# Altium schematic symbol library Componentes_base.SchLib: 431 symbols (part 5 of 12)
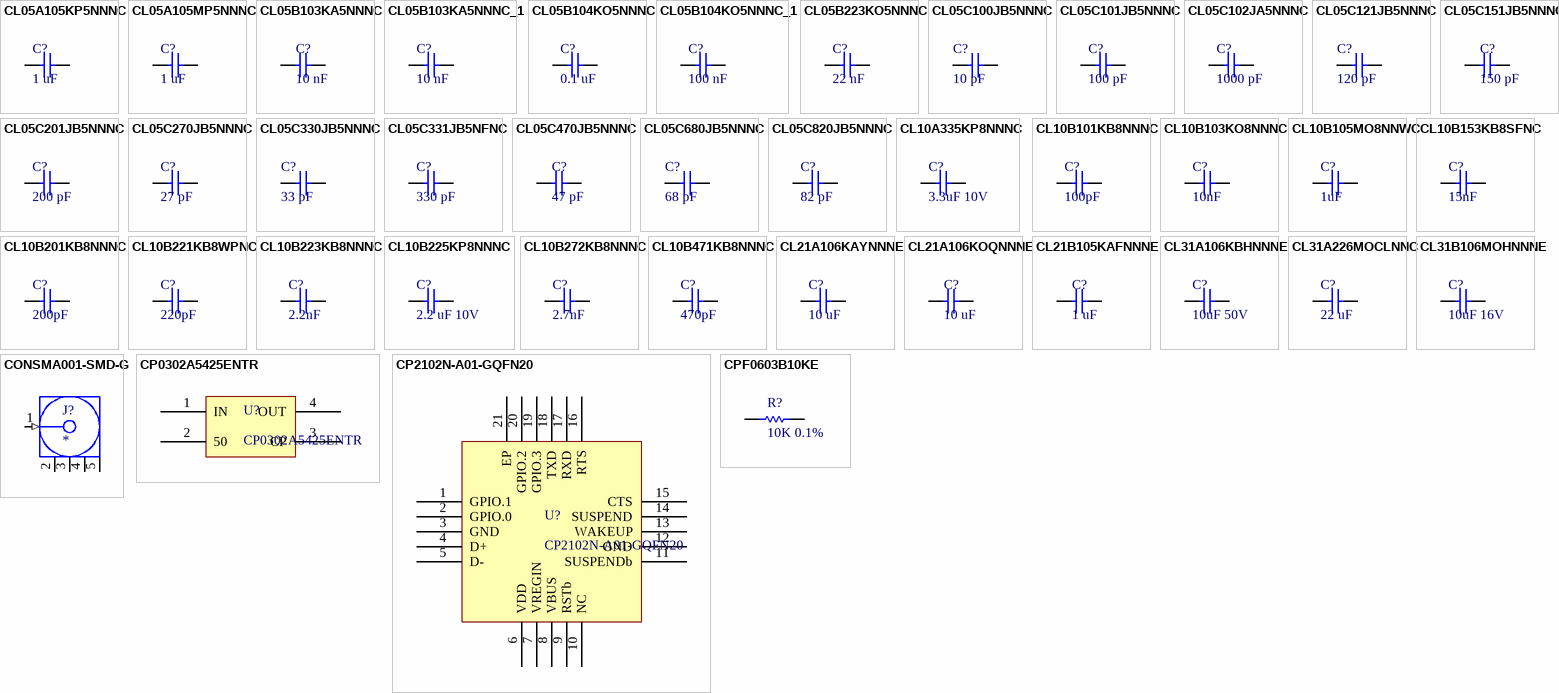
[diagram p18: symbols CL05A105KP5NNNC to CPF0603B10KE]

## CL21A106KOQNNNE
designator C?, comment 10 uF
CAP CER 10UF 16V 10% X5R 0805; Manufacturer: Samsung Electro-Mechanics America, Inc; Manufacturer Part Number: CL21B106KOQNNNE; Capacitance: 10µF; Temperature Coefficient: X7R; Supplier 1: Digi-Key; Supplier Part Number 1: 1276-2872-1-ND; RoHS: RoHS Compliant; Category: Capacitors; Stock 1: 259387; Pricing 1: 1=0.26, 10=0.217, 25=0.1496, 100=0.1088, 500=0.07204, 1000=0.0639 (EUR); Packaging: Cut Tape (CT); Tolerance: ±10%; Voltage - Rated: 16V; Mounting Type: Surface Mount, MLCC; Operating Temperature: -55°C ~ 125°C; Applications: General Purpose; Ratings: -; Package / Case: 0805 (2012 Metric); Size / Dimension: 0.079" L x 0.049" W (2.00mm x 1.25mm); Height - Seated (Max): -; Thickness (Max): 0.055" (1.40mm); Lead Spacing: -; Features: -; Lead Style: -; ComponentLink1URL: http://www.samsungsem.com/servlet/FileDownload?type=spec&file=CL21B106KOQNNNE.pdf; ComponentLink1Description: http://www.samsungsem.com/servlet/FileDownload?type=spec&file=CL21B106KOQNNNE.pdf; Supplier 2: Digi-Key; Supplier Part Number 2: 1276-1096-1-ND; Stock 2: 815363; Pricing 2: 1=0.22, 10=0.15, 25=0.1096, 100=0.0767, 500=0.05478, 1000=0.04655 (EUR); ComponentLink2URL: http://www.samsungsem.com/servlet/FileDownload?type=spec&file=CL21A106KOQNNNE.pdf; ComponentLink2Description: http://www.samsungsem.com/servlet/FileDownload?type=spec&file=CL21A106KOQNNNE.pdf
footprint CAPC2012X08L (Chip Capacitor, 2-Leads, Body 2,00x1,25mm, IPC High Density)
pins: 1, 2

## CL21B105KAFNNNE
designator C?, comment 1 uF
CAP CER 1UF 25V 10% X7R 0805; Manufacturer: Samsung Electro-Mechanics America, Inc; Manufacturer Part Number: CL21B105KAFNNNE; Capacitance: 1.0µF; Supplier 1: Digi-Key; Supplier Part Number 1: 1276-1066-1-ND; RoHS: RoHS Compliant; Category: Capacitors; Stock 1: 446779; Pricing 1: 1=0.11, 10=0.077, 25=0.054, 100=0.0349, 500=0.02446, 1000=0.01906 (EUR); Packaging: Cut Tape (CT); Tolerance: ±10%; Voltage - Rated: 25V; Temperature Coefficient: X7R; Mounting Type: Surface Mount, MLCC; Operating Temperature: -55°C ~ 125°C; Applications: General Purpose; Ratings: -; Package / Case: 0805 (2012 Metric); Size / Dimension: 0.079" L x 0.049" W (2.00mm x 1.25mm); Height - Seated (Max): -; Thickness (Max): 0.053" (1.35mm); Lead Spacing: -; Features: -; Lead Style: -; ComponentLink1URL: http://www.samsungsem.com/servlet/FileDownload?type=spec&file=CL21B105KAFNNNE.pdf; ComponentLink1Description: http://www.samsungsem.com/servlet/FileDownload?type=spec&file=CL21B105KAFNNNE.pdf
footprint CAPC2012X08L (Chip Capacitor, 2-Leads, Body 2,00x1,25mm, IPC High Density)
pins: 1, 2

## CL31A106KBHNNNE
designator C?, comment 10uF 50V
Cap Ceramic 10uF 50V X5R 10% SMD 1206 85C T/R; Manufacturer: Samsung; Manufacturer Part Number: CL31A106KBHNNNE; Capacitance: 10 µF; Supplier 1: Digi-Key; Stock 1: 20000; Pricing 1: 1=0.67, 10=0.477, 100=0.3142, 500=0.2328, 1000=0.1978 (USD); Case Size/Dimension: 1206; Dielectric: X5R; Tolerance (%): ±10 %; Rated Voltage: 50 V; ComponentLink1URL: https://datasheet.ciiva.com/25726/cl31a106kbhnnne-25726404.pdf; ComponentLink1Description: https://datasheet.ciiva.com/25726/cl31a106kbhnnne-25726404.pdf; ComponentLink2URL: https://datasheet.ciiva.com/15216/getdatasheetpartid-353196-15216238.pdf; ComponentLink2Description: https://datasheet.ciiva.com/15216/getdatasheetpartid-353196-15216238.pdf; ComponentLink3URL: https://datasheet.ciiva.com/29201/452492-da-01-en-vs-kondensator-1206-29201107.pdf; ComponentLink3Description: https://datasheet.ciiva.com/29201/452492-da-01-en-vs-kondensator-1206-29201107.pdf; ComponentLink4URL: https://datasheet.ciiva.com/16437/cl05b104kq5nnnc-16437222.pdf; ComponentLink4Description: https://datasheet.ciiva.com/16437/cl05b104kq5nnnc-16437222.pdf; ComponentLink5URL: https://datasheet.ciiva.com/20173/71-0881-20173082.pdf; ComponentLink5Description: https://datasheet.ciiva.com/20173/71-0881-20173082.pdf; Supplier Part Number 1: 1276-2876-1-ND
footprint CAPC3216X09L (Chip Capacitor, 2-Leads, Body 3,20x1,60mm, IPC High Density)
pins: 1, 2

## CL31A226MOCLNNC
designator C?, comment 22 uF
CAP CER 22UF 16V 20% X5R 1206; Manufacturer: Samsung Electro-Mechanics America, Inc; Manufacturer Part Number: CL31A226MOCLNNC; Capacitance: 22µF; Supplier 1: Digi-Key; Supplier Part Number 1: 1276-2728-1-ND; RoHS: RoHS Compliant; Category: Capacitors; Stock 1: 145906; Pricing 1: 1=0.31, 10=0.257, 25=0.1768, 100=0.1285, 500=0.0851, 1000=0.07548 (EUR); Packaging: Cut Tape (CT); Tolerance: ±20%; Voltage - Rated: 16V; Temperature Coefficient: X5R; Mounting Type: Surface Mount, MLCC; Operating Temperature: -55°C ~ 85°C; Applications: General Purpose; Ratings: -; Package / Case: 1206 (3216 Metric); Size / Dimension: 0.126" L x 0.063" W (3.20mm x 1.60mm); Height - Seated (Max): -; Thickness (Max): 0.037" (0.95mm); Lead Spacing: -; Features: -; Lead Style: -; ComponentLink1URL: http://www.samsungsem.com/servlet/FileDownload?type=spec&file=CL31A226MOCLNNC.pdf; ComponentLink1Description: http://www.samsungsem.com/servlet/FileDownload?type=spec&file=CL31A226MOCLNNC.pdf
footprint CAPC3216X09L (Chip Capacitor, 2-Leads, Body 3,20x1,60mm, IPC High Density)
pins: 1, 2

## CL31B106MOHNNNE
designator C?, comment 10uF 16V
CAP CER 10UF 16V X7R 1206; Manufacturer: Samsung Electro-Mechanics America, Inc.; Manufacturer Part Number: CL31B106MOHNNNE; Capacitance: 10µF; Tolerance: ±20%; Supplier 1: Digi-Key; RoHS: RoHS Compliant; Category: Capacitors; Stock 1: 8361; Pricing 1: 1=0.13, 10=0.093, 25=0.0676, 50=0.0528, 100=0.0438, 250=0.0362, 500=0.03068, 1000=0.02539 (EUR); Packaging: Digi-Reel®; Part Status: Active; Voltage - Rated: 16V; Temperature Coefficient: X7R; Operating Temperature: -55°C ~ 125°C; Features: -; Ratings: -; Applications: General Purpose; Mounting Type: Surface Mount, MLCC; Package / Case: 1206 (3216 Metric); Size / Dimension: 0.126" L x 0.063" W (3.20mm x 1.60mm); Height - Seated (Max): -; Thickness (Max): 0.071" (1.80mm); Lead Spacing: -; Lead Style: -; ComponentLink1URL: http://www.samsungsem.com/kr/support/product-search/mlcc/__icsFiles/afieldfile/2016/08/18/S_CL31B106MOHNNNE.pdf; ComponentLink1Description: http://www.samsungsem.com/kr/support/product-search/mlcc/__icsFiles/afieldfile/2016/08/18/S_CL31B106MOHNNNE.pdf; Supplier Part Number 1: 1276-6641-6-ND
footprint 1206 CAP (Chip Capacitor, 2-Leads, Body 3,20x1,60mm, IPC Medium Density)
pins: 1, 2

## CONSMA001-SMD-G
designator J?
RF Connectors / Coaxial Connectors SMA Female Surface Mount Gold; Manufacturer: Linx Technologies; Manufacturer Part Number: CONSMA001-SMD-G; Gender: Jack; Impedance: 50 Ohms; Product Status: New at Mouser; Connector Type: Jack, Female Socket; Contact Termination: Solder; Body Material: Brass; Center Contact Material: Beryllium Copper; Dielectric Material: Polytetrafluoroethylene (PTFE); Supplier 1: Mouser; Supplier Part Number 1: 712-CONSMA001-SMD-G; RoHS: RoHS Compliant; Category: RF Connectors / Coaxial Connectors; Stock 1: 3012; Pricing 1: 1=2.47, 25=2.24, 100=2.14, 500=1.95, 2000=1.90 (EUR); Contact Plating: Gold; Orientation: Vertical; Product: Connectors; Series: SMA; Termination Style: Solder; Brand: Linx Technologies; Contact Material: Beryllium Copper; RF Series: SMA; Body Finish: Gold; Standard Pack Qty: 100; RoHS - Mouser: Y; Minimum Order Quantity: 1; Reeling: False; ComponentLink1URL: http://www.mouser.com/ds/2/238/consma001-smd-21851.pdf; ComponentLink1Description: http://www.mouser.com/ds/2/238/consma001-smd-21851.pdf; Supplier 2: Digi-Key; Supplier Part Number 2: CONSMA001-SMD-G-ND; Stock 2: 17786; Pricing 2: 1=2.77, 25=2.5068, 100=2.3907 (EUR); Packaging: Bulk; Connector Style: SMA; Shield Termination: Solder; Mounting Type: Surface Mount; Cable Group: -; Fastening Type: Threaded; Frequency - Max: -; Features: -; Housing Color: Gold; Ingress Protection: -; Center Contact Plating: Gold; Voltage Rating: -; Operating Temperature: -65°C ~ 165°C; ComponentLink2URL: https://www.linxtechnologies.com/resources/diagrams/consma001-smd-g.pdf; ComponentLink2Description: https://www.linxtechnologies.com/resources/diagrams/consma001-smd-g.pdf
footprint SMA_SMD_LYNX (SMA RF CONNECTOR. SMD VERTICAL)
pins: 1 Signal (in) "Signal Pin", 2 GND (power), 3 GND (power), 4 GND (power), 5 GND (power)

## CP0302A5425ENTR
designator U?
WIFI COUPLER 0302; Manufacturer: AVX Corporation; Coupler Type: Standard; Frequency: 2.4GHz ~ 2.5GHz, 4.9GHz ~ 5.95GHz; Coupling Factor: 20dB; Insertion Loss: 0.4dB; Return Loss: 30dB; Supplier 1: Digi-Key; Manufacturer Part Number: CP0302A5425ENTR; RoHS: RoHS Compliant; Category: RF/IF and RFID; Stock 1: 8267; Pricing 1: 1=0.48, 10=0.428, 25=0.3872, 100=0.3387, 250=0.2972, 500=0.26264, 1000=0.20733 (EUR); Packaging: Cut Tape (CT); Part Status: Active; Applications: General Purpose; Power - Max: -; Isolation: -; Package / Case: 0302 (0806 Metric), 4 Lead; Supplier Device Package: -; ComponentLink1URL: http://datasheets.avx.com/cp0302.pdf; ComponentLink1Description: http://datasheets.avx.com/cp0302.pdf; Supplier Part Number 1: 478-9329-1-ND
footprint DFN60P65X25-4N (DFN, 4-Leads, Body 0,50x0,65mm, Pitch 0,60mm, IPC Medium Density)
pins: 1 IN, 2 50 , 3 CP, 4 OUT

## CP2102N-A01-GQFN20
designator U?
SILICON LABS         CP2102N-A01-GQFN20             Interface Bridges, USB to UART, 3 V, 3.6 V, QFN, 20 Pins, -40 C                          New; Supply Voltage Min: 3V; Supply Voltage Max: 3.6V; No. of Pins: 20Pins; SVHC: To Be Advised; Supplier 1: Digi-Key; Manufacturer: Silicon Labs; Manufacturer Part Number: CP2102N-A01-GQFN20; Stock 1: 13910; Pricing 1: 1=1.33, 25=1.2808, 100=1.2317, 1000=1.1526 (USD); Bridge Type: USB to UART; Interface Case Style: QFN; Operating Temperature Min: -40°C; Operating Temperature Max: 85°C; Packaging: Each; Product Range: -; Automotive Qualification Standard: -; MSL: MSL 2 - 1 year; Supplier Part Number 1: 336-3692-ND
footprint PQFN127P600-8N
pins: 1 GPIO.1, 2 GPIO.0 , 3 GND, 4 D+, 5 D-, 6 VDD, 7 VREGIN, 8 VBUS, 9 RSTb, 10 NC, 11 SUSPENDb, 12 GND, 13 WAKEUP, 14 SUSPEND, 15 CTS, 16 RTS, 17 RXD, 18 TXD, 19 GPIO.3, 20 GPIO.2, 21 EP

## CPF0603B10KE
designator R?, comment 10K 0.1%
RES SMD 10K OHM 0.1% 1/16W 0603; Manufacturer: TE Connectivity AMP Connectors; Manufacturer Part Number: CPF0603B10KE; Power (Watts): 0.063W, 1/16W; Temperature Coefficient: ±25ppm/°C; Power Rating: 63 mW; Resistance: 10 kOhms; Voltage Rating: 100 V; Brand: TE Connectivity / Neohm; Supplier 1: Digi-Key; RoHS: RoHS Compliant; Category: Resistors; Stock 1: 4359; Pricing 1: 1=0.17, 50=0.1686, 100=0.1615, 250=0.12044, 500=0.07938 (EUR); Packaging: Digi-Reel®; Resistance (Ohms): 10k; Tolerance: ±0.1%; Composition: Thin Film; Features: -; Operating Temperature: -55°C ~ 155°C; Package / Case: 0603 (1608 Metric); Supplier Device Package: 0603; Size / Dimension: 0.061" L x 0.031" W (1.55mm x 0.80mm); Height: 0.022" (0.55mm); Number of Terminations: 2; ComponentLink1URL: http://www.te.com/commerce/DocumentDelivery/DDEController?Action=srchrtrv&DocNm=1773200&DocType=DS&DocLang=English; ComponentLink1Description: http://www.te.com/commerce/DocumentDelivery/DDEController?Action=srchrtrv&DocNm=1773200&DocType=DS&DocLang=English; Supplier 2: Mouser; Stock 2: 3319; Pricing 2: 1=0.182, 50=0.181, 100=0.174, 250=0.130, 500=0.085, 5000=0.085 (EUR); Length: 1.55 mm; Operating Temperature Range: - 55 C to + 155 C; Package/Case: 0603 (1608 metric); Product: Precision Resistors Thin Film SMD; Series: CPF; Termination Style: SMD/SMT; Type: Thin Film Precision Resistors; Width: 0.8 mm; Case Code - in: 0603; Case Code - mm: 1608; Standard Pack Qty: 5000; RoHS - Mouser: Y; Minimum Order Quantity: 1; Reeling: True; ComponentLink2URL: http://www.mouser.com/ds/2/418/NG_CD_1614881_BA3_pdf_c-1614881_drw-654415.pdf; ComponentLink2Description: http://www.mouser.com/ds/2/418/NG_CD_1614881_BA3_pdf_c-1614881_drw-654415.pdf; Supplier Part Number 1: A119886DKR-ND; Supplier Part Number 2: 279-CPF0603B10KE
footprint RESC1508X06L (Chip Resistor, 2-Leads, Body 1,55x0,80mm, IPC High Density)
pins: 1, 2

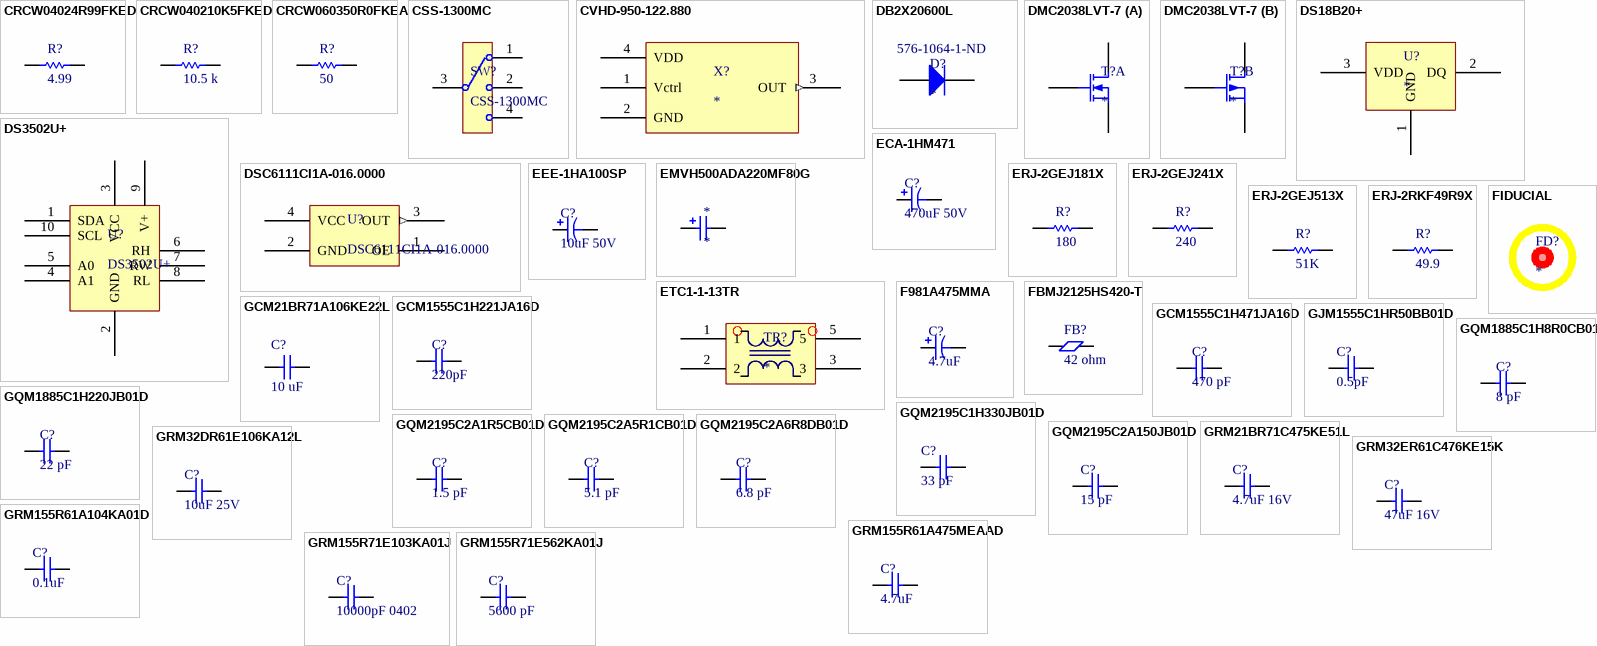
[diagram p5: symbols CRCW04024R99FKED to GRM155R71E562KA01J]

## CRCW04024R99FKED
designator R?, comment 4.99
Thick Film Resistors - SMD 1/16watt 4.99ohms 1% 100ppm; Manufacturer: Vishay / Dale; Manufacturer Part Number: CRCW04024R99FKED; Power Rating: 63 mW; Temperature Coefficient: 100 PPM / K; Voltage Rating: 50 V; Power (Watts): 0.063W, 1/16W; Supplier 1: Mouser; RoHS: RoHS Compliant By Exemption; Category: Thick Film Resistors - SMD; Stock 1: 31099; Pricing 1: 1=0.091, 10=0.041, 100=0.024, 1000=0.016, 10000=0.005, 50000=0.004, 250000=0.003 (EUR); Height: 0.35 mm; Length: 1 mm; Operating Temperature Range: - 55 C to + 155 C; Package/Case: 0402 (1005 metric); Packaging: Reel; Product: Thick Film Resistors SMD; Resistance: 4.99 Ohms; Series: CRCW; Termination Style: SMD/SMT; Tolerance: 1 %; Width: 0.5 mm; Brand: Vishay / Dale; Case Code - in: 0402; Case Code - mm: 1005; Product Category: 0402 Thick Film Chip Resistors; Standard Pack Qty: 10000; RoHS - Mouser: E; Minimum Order Quantity: 1; Reeling: True; ComponentLink1URL: http://www.mouser.com/ds/2/427/dcrcwe3-109170.pdf; ComponentLink1Description: http://www.mouser.com/ds/2/427/dcrcwe3-109170.pdf; Supplier 2: Digi-Key; Stock 2: 80363; Pricing 2: 10=0.074, 50=0.0396, 200=0.02275, 1000=0.01552 (EUR); Resistance (Ohms): 4.99; Composition: Thick Film; Features: Automotive AEC-Q200; Operating Temperature: -55°C ~ 155°C; Package / Case: 0402 (1005 Metric); Supplier Device Package: 0402 (1005 Metric); Size / Dimension: 0.039" L x 0.020" W (1.00mm x 0.50mm); Number of Terminations: 2; ComponentLink2URL: http://www.vishay.com/docs/20035/dcrcwe3.pdf; ComponentLink2Description: http://www.vishay.com/docs/20035/dcrcwe3.pdf; Supplier Part Number 1: 71-CRCW0402-4.99-E3; Supplier Part Number 2: 541-4.99LLCT-ND
footprint RESC1005X04L (Chip Resistor, 2-Leads, Body 1,00x0,50mm, IPC High Density)
pins: 1, 2

## CRCW040210K5FKED
designator R?, comment 10.5 k
Thick Film Resistors - SMD 1/16watt 10.5Kohms 1%; Manufacturer: Vishay / Dale; Manufacturer Part Number: CRCW040210K5FKED; Power Rating: 63 mW; Temperature Coefficient: 100 PPM / K; Voltage Rating: 50 V; Case Height: 0.35 mm; Case Length: 1 mm; Case Width: 0.5 mm; Supplier 1: Mouser; Supplier Part Number 1: 71-CRCW0402-10.5K-E3; RoHS: RoHS Compliant By Exemption; Category: Thick Film Resistors - SMD; Stock 1: 55602; Pricing 1: 1=0.069, 10=0.038, 100=0.018, 1000=0.013, 10000=0.004, 30000=0.003 (EUR); Operating Temperature Range: - 55 C to + 155 C; Package/Case: 0402 (1005 metric); Packaging: Reel; Product: Thick Film Resistors SMD; Resistance: 10.5 kOhms; Series: CRCW; Tolerance: 1 %; Brand: Vishay / Dale; Case Code - in: 0402; Case Code - mm: 1005; Product Category: 0402 Thick Film Chip Resistors; Standard Pack Qty: 10000; RoHS - Mouser: E; Minimum Order Quantity: 1; Reeling: True; ComponentLink1URL: http://www.mouser.com/ds/2/427/dcrcwe3-109170.pdf; ComponentLink1Description: http://www.mouser.com/ds/2/427/dcrcwe3-109170.pdf
footprint RESC1005X04L (Chip Resistor, 2-Leads, Body 1,00x0,50mm, IPC High Density)
pins: 1, 2

## CRCW060350R0FKEA
designator R?, comment 50
RES SMD 50 OHM 1% 1/10W 0603; Manufacturer: Vishay Dale; Manufacturer Part Number: CRCW060350R0FKEA; Power (Watts): 0.1W, 1/10W; Temperature Coefficient: ±100ppm/°C; Supplier 1: Digi-Key; RoHS: RoHS Compliant; Category: Resistors; Stock 1: 0; Pricing 1: 1=0.09, 10=0.031, 25=0.0228, 50=0.0172, 100=0.0127, 250=0.00972, 500=0.00778, 1000=0.00572 (EUR); Packaging: Digi-Reel®; Part Status: Active; Resistance (Ohms): 50; Tolerance: ±1%; Composition: Thick Film; Features: Automotive AEC-Q200; Operating Temperature: -55°C ~ 155°C; Package / Case: 0603 (1608 Metric); Supplier Device Package: 0603; Size / Dimension: 0.061" L x 0.033" W (1.55mm x 0.85mm); Height - Seated (Max): 0.020" (0.50mm); Failure Rate: -; ComponentLink1URL: http://www.vishay.com/docs/20035/dcrcwe3.pdf; ComponentLink1Description: http://www.vishay.com/docs/20035/dcrcwe3.pdf; Supplier Part Number 1: 541-3318-6-ND
footprint 0603 Res (Chip Resistor, Body 1.6x0.8mm, IPC High Density)
pins: 1, 2

## CSS-1300MC
designator SW?
SWITCH SLIDE SP3T 100MA 12V; Manufacturer: Copal Electronics Inc.; Contact Timing: Non-Shorting (BBM); Switch Function: On-On-On; Current Rating: 100mA (DC); Actuator Type: Standard; Actuator Length: 2.00mm; Actuator Material: Liquid Crystal Polymer (LCP); Electrical Life: 10,000 Cycles; Operating Force: 102 ~ 357gf; Supplier 1: Digi-Key; Manufacturer Part Number: CSS-1300MC; RoHS: RoHS Compliant; Category: Switches; Stock 1: 3739; Pricing 1: 1=0.53, 10=0.51, 25=0.4992, 50=0.4462, 100=0.425, 250=0.4144, 500=0.35066, 1000=0.34004, 5000=0.29753 (EUR); Packaging: Tube; Part Status: Active; Circuit: SP3T; Voltage Rating - AC: -; Voltage Rating - DC: 12V; Contact Material: Copper Alloy; Contact Finish: Gold; Mounting Type: Through Hole; Termination Style: PC Pin; Features: -; Switch Travel: 2.00mm; Operating Temperature: -20°C ~ 70°C; Mechanical Life: -; ComponentLink1URL: http://www.nidec-copal-electronics.com/e/catalog/switch/css.pdf; ComponentLink1Description: http://www.nidec-copal-electronics.com/e/catalog/switch/css.pdf; Supplier Part Number 1: 563-1100-ND
footprint CSS-1300C (SWITCH)
pins: 1, 2, 3, 4

## CVHD-950-122.880
designator X?
VCXO Oscillators Crystals and Oscillators; Manufacturer: Crystek Corporation; Manufacturer Part Number: CVHD-950-122.880; Frequency: 122.88MHz; Function: Standby (Power Down); Output: CMOS; Voltage - Supply: 3.3V; Current - Supply (Max): 25mA; Supplier 1: Mouser; Supplier Part Number 1: 549-CVHD-950-122.880; RoHS: RoHS Compliant; Category: VCXO Oscillators; Stock 1: 20; Pricing 1: 1=28.93, 5=26.47, 10=24.81, 25=23.98 (EUR); Brand: Crystek Corporation; Standard Pack Qty: 25; RoHS - Mouser: Y; Minimum Order Quantity: 1; Reeling: False; ComponentLink1URL: http://www.crystek.com/crystal/spec-sheets/vcxo/CVHD-950.pdf; ComponentLink1Description: http://www.crystek.com/crystal/spec-sheets/vcxo/CVHD-950.pdf; Supplier 2: Digi-Key; Supplier Part Number 2: 744-1271-ND; Stock 2: 1222; Pricing 2: 1=29.44, 5=26.916, 10=25.235, 25=24.3904 (EUR); Packaging: Cut Strip; Type: VCXO; Frequency Stability: -; Operating Temperature: 0°C ~ 70°C; Ratings: -; Mounting Type: Surface Mount; Size / Dimension: 0.559" L x 0.360" W (14.20mm x 9.14mm); Height: 0.209" (5.30mm); Package / Case: 4-SMD, No Lead (DFN, LCC); Current - Supply (Disable) (Max): -
footprint CVHD-950 (CRYSTEK VCXO 14X9X5)
pins: 1 Vctrl, 2 GND (power), 3 OUT (out), 4 VDD (power)

## DB2X20600L
designator D?  Supplier Part Number 2: 576-1064-1-ND
DIODE SCHOTTKY 20V 1A MINI2; Manufacturer: Panasonic Electronic Components; Manufacturer Part Number: DB2X20600L; Voltage - Forward (Vf) (Max) @ If: 450mV @ 1A; Speed: Fast Recovery =< 500ns, > 200mA (Io); Reverse Recovery Time (trr): 6ns; Current - Reverse Leakage @ Vr: 100µA @ 20V; Capacitance @ Vr, F: 20pF @ 10V, 1MHz; Function: Step-Up, Step-Up/Step-Down; Output Configuration: Positive or Negative, Isolation Capable; Topology: Boost, Cuk, Flyback, Forward Converter; Output Type: Adjustable; Number of Outputs: 1; Voltage - Input (Min): 3V; Voltage - Input (Max): 40V; Voltage - Output (Min/Fixed): 1.24V; Voltage - Output (Max): 65V (Switch); Current - Output: 1.25A (Switch); Frequency - Switching: 100kHz; Synchronous Rectifier: No; Supplier 1: Digi-Key; RoHS: RoHS Compliant; Category: Discrete Semiconductor Products; Stock 1: 5918; Pricing 1: 1=0.17, 10=0.143, 25=0.1156, 100=0.0899, 250=0.08728, 500=0.08472, 1000=0.07703 (EUR); Packaging: Cut Tape (CT); Part Status: Active; Diode Type: Schottky; Voltage - DC Reverse (Vr) (Max): 20V; Current - Average Rectified (Io): 1A; Mounting Type: Surface Mount; Package / Case: SOD-123F; Supplier Device Package: Mini2-F4-B; Operating Temperature - Junction: 125°C (Max); ComponentLink1URL: http://www.semicon.panasonic.co.jp/ds4/DB2X206_E.pdf; ComponentLink1Description: http://www.semicon.panasonic.co.jp/ds4/DB2X206_E.pdf; Supplier Part Number 1: DB2X20600LCT-ND; Supplier 2: Digi-Key; Stock 2: 1486; Pricing 2: 1=2.58, 25=2.1596, 100=1.9616 (EUR); Operating Temperature: -40°C ~ 85°C (TA); ComponentLink2URL: http://www.microchip.com/mymicrochip/filehandler.aspx?ddocname=en579664; ComponentLink2Description: http://www.microchip.com/mymicrochip/filehandler.aspx?ddocname=en579664
footprint SOD123-FL (Molded Diode, 2-Leads, Body 2,60x1,60mm, IPC High Density)
pins: 1 K, 2 A

## DMC2038LVT-7
designator T?
MOSFET MOSFET BVDSS: 8V-24V 8V-24V,TSOT23,3K; Manufacturer: Diodes Incorporated; Manufacturer Part Number: DMC2038LVT-7; Configuration: Dual; Transistor Polarity: N and P-Channel; Channel Mode: Enhancement; Id - Continuous Drain Current: 4.5 A; Pd - Power Dissipation: 800 mW; Qg - Gate Charge: 5.7 nC, 7 nC; Rds On - Drain-Source Resistance: 35 mOhms, 74 mOhms; Typical Turn-Off Delay Time: 25 ns, 21 nS; Vds - Drain-Source Breakdown Voltage: 20 V; Vgs - Gate-Source Breakdown Voltage: 12 V; FET Feature: Logic Level Gate; Drain to Source Voltage (Vdss): 20V; Current - Continuous Drain (Id) @ 25°C: 3.7A, 2.6A; Rds On (Max) @ Id, Vgs: 35 mOhm @ 4A, 4.5V; Vgs(th) (Max) @ Id: 1V @ 250µA; Gate Charge (Qg) @ Vgs: 17nC @ 10V; Input Capacitance (Ciss) @ Vds: 530pF @ 10V; Power - Max: 800mW; Wavelength: 520nm; Voltage - Max: 150Vpk; Rise Time (Typ): 60ms; Fall Time (Typ): 25ms; Cell Resistance (Min) @ Dark: 500 kOhms @ 10 seconds; Cell Resistance @ Illuminance: 16 ~ 33 kOhms @ 10 lux; Supplier 1: Mouser; Supplier Part Number 1: 621-DMC2038LVT-7; RoHS: RoHS Compliant; Category: MOSFET; Stock 1: 27022; Pricing 1: 1=0.484, 10=0.274, 100=0.118, 1000=0.090, 3000=0.068, 9000=0.061, 24000=0.057, 45000=0.051, 99000=0.048 (EUR); Package/Case: TSOT-26-6; Packaging: Reel; Series: DMC2038; Brand: Diodes Incorporated; Mounting Style: SMD/SMT; Maximum Operating Temperature: + 150 C; Minimum Operating Temperature: - 55 C; RoHS - Mouser: Y; Minimum Order Quantity: 1; Reeling: True; ComponentLink1URL: http://www.mouser.com/ds/2/115/DMC2038LVT-82505.pdf; ComponentLink1Description: http://www.mouser.com/ds/2/115/DMC2038LVT-82505.pdf; Supplier 2: Digi-Key; Supplier Part Number 2: DMC2038LVT-7DICT-ND; Stock 2: 80830; Pricing 2: 1=0.5, 10=0.359, 25=0.2792, 100=0.2113, 250=0.14944, 500=0.11962, 1000=0.09175 (EUR); FET Type: N and P-Channel; Mounting Type: Surface Mount; Package / Case: SOT-23-6 Thin, TSOT-23-6; Supplier Device Package: TSOT-26; ComponentLink2URL: http://www.diodes.com/datasheets/DMC2038LVT.pdf; ComponentLink2Description: http://www.diodes.com/datasheets/DMC2038LVT.pdf; Part Status: Active; Operating Temperature: -30°C ~ 75°C (TA); ComponentLink3URL: http://media.digikey.com/pdf/Data%20Sheets/Photonic%20Detetectors%20Inc%20PDFs/PDV-P8103.pdf; ComponentLink3Description: http://media.digikey.com/pdf/Data%20Sheets/Photonic%20Detetectors%20Inc%20PDFs/PDV-P8103.pdf
footprint SOT95P280X100-6N (SOT23, 6-Leads, Body 2,90x2,80mm, Pitch 0,95mm, IPC Medium Density)
part A pins: 1 G1, 5 S1, 6 D1
part B pins: 2 S2, 3 G2, 4 D2

## DS18B20+
designator U?
SENSOR TEMPERATURE 1-WIRE TO92-3; Manufacturer: Maxim Integrated; Manufacturer Part Number: DS18B20+; Sensor Type: Digital, Local; Sensing Temperature - Local: -55°C ~ 125°C; Output Type: 1-Wire®; Voltage - Supply: 3 V ~ 5.5 V; Resolution: 11 b; Accuracy - Highest (Lowest): ±0.5°C (±2°C); Test Condition: -10°C ~ 85°C (-55°C ~ 125°C); Supplier 1: Digi-Key; RoHS: RoHS Compliant; Category: Sensors, Transducers; Stock 1: 21207; Pricing 1: 1=2.62, 10=2.526 (EUR); Packaging: Tube; Part Status: Active; Sensing Temperature - Remote: -; Features: Output Switch, Programmable Limit, Programmable Resolution; Operating Temperature: -55°C ~ 125°C; Mounting Type: Through Hole; Package / Case: TO-226-3, TO-92-3 (TO-226AA); Supplier Device Package: TO-92-3; ComponentLink1URL: http://datasheets.maximintegrated.com/en/ds/DS18B20.pdf; ComponentLink1Description: http://datasheets.maximintegrated.com/en/ds/DS18B20.pdf; Supplier Part Number 1: DS18B20+-ND
footprint SIP3 (3-PIN HEADER)
pins: 1 GND, 2 DQ, 3 VDD

## DS3502U+
designator U?
IC POT DGTL NV 128TAP 10-MSOP; Manufacturer: Maxim Integrated; Configuration: Potentiometer; Number of Circuits: 1; Number of Taps: 128; Resistance (Ohms): 10k; Interface: I²C; Memory Type: Non-Volatile; Voltage - Supply: 2.5 V ~ 5.5 V, 4.5 V ~ 15.5 V; Tolerance: ±20%; Temperature Coefficient (Typ): ±4 ppm/°C; Resistance - Wiper (Ohms) (Typ): 5000; Supplier 1: Digi-Key; Manufacturer Part Number: DS3502U+; RoHS: RoHS Compliant; Category: Integrated Circuits (ICs); Stock 1: 723; Pricing 1: 1=1.02, 10=0.973, 25=0.8976, 50=0.851, 100=0.7669, 250=0.72944, 1000=0.54242 (EUR); Packaging: Tube; Part Status: Active; Taper: Linear; Features: Selectable Address; Operating Temperature: -40°C ~ 100°C; Package / Case: 10-TFSOP, 10-MSOP (0.118", 3.00mm Width); Supplier Device Package: 10-uMAX; ComponentLink1URL: http://datasheets.maximintegrated.com/en/ds/DS3502.pdf; ComponentLink1Description: http://datasheets.maximintegrated.com/en/ds/DS3502.pdf; Supplier Part Number 1: DS3502U+-ND
footprint uSOP-10 uMAX (TSSOP, 10-Leads, Body 3,02x3,02mm, Pitch 0,50mm, IPC Medium Density)
pins: 1 SDA, 2 GND, 3 VCC, 4 A1, 5 A0, 6 RH, 7 RW, 8 RL, 9 V+, 10 SCL

## DSC6111CI1A-016.0000
designator U?
ULTRA-LOW POWER,MEMS OSCILLATOR,; Manufacturer: Microchip Technology; Frequency: 16MHz; Function: Standby (Power Down); Output: CMOS; Voltage - Supply: 1.71 V ~ 3.63 V; Frequency Stability: ±25ppm; Current - Supply (Max): 3mA (Typ); Current - Supply (Disable) (Max): 10.5µA; Supplier 1: Digi-Key; Manufacturer Part Number: DSC6111CI1A-016.0000; RoHS: RoHS Compliant; Category: Crystals, Oscillators, Resonators; Stock 1: 957; Pricing 1: 1=0.81, 25=0.6744, 100=0.6514 (EUR); Packaging: Tube; Part Status: Active; Type: MEMS (Silicon); Operating Temperature: -40°C ~ 85°C; Ratings: AEC-Q100; Mounting Type: Surface Mount; Package / Case: 4-SMD, No Lead; Size / Dimension: 0.126" L x 0.098" W (3.20mm x 2.50mm); Height - Seated (Max): 0.035" (0.90mm); ComponentLink1URL: http://www.microchip.com/mymicrochip/filehandler.aspx?ddocname=en587492; ComponentLink1Description: http://www.microchip.com/mymicrochip/filehandler.aspx?ddocname=en587492; Supplier Part Number 1: DSC6111CI1A-016.0000-ND
footprint DFN 3.2x2.5 (DFN, 4-Leads, Body 2,50x3,20mm, Pitch 2,10mm, IPC Medium Density)
pins: 1 OE, 2 GND (power), 3 OUT (out), 4 VCC (power)

## ECA-1HM471
designator C?, comment 470uF 50V
CAP ALUM 470UF 20% 50V RADIAL; Manufacturer: Panasonic Electronic Components; Manufacturer Part Number: ECA-1HM471; Capacitance: 470µF; Lifetime @ Temp.: 2000 Hrs @ 85°C; Polarization: Polar; Ripple Current: 650mA @ 120Hz; Supplier 1: Digi-Key; RoHS: RoHS Compliant; Category: Capacitors; Stock 1: 39199; Pricing 1: 1=0.55, 10=0.389, 25=0.332, 50=0.294, 100=0.2561, 250=0.21812, 500=0.18966, 1000=0.16121, 5000=0.14224 (EUR); Packaging: Bulk; Part Status: Active; Tolerance: ±20%; Voltage Rating: 50V; ESR (Equivalent Series Resistance): -; Operating Temperature: -40°C ~ 85°C; Applications: General Purpose; Impedance: -; Lead Spacing: 0.197" (5.00mm); Size / Dimension: 0.394" Dia (10.00mm); Height - Seated (Max): 0.866" (22.00mm); Surface Mount Land Size: -; Mounting Type: Through Hole; Package / Case: Radial, Can; ComponentLink1URL: https://industrial.panasonic.com/cdbs/www-data/pdf/RDF0000/ABA0000C1218.pdf; ComponentLink1Description: https://industrial.panasonic.com/cdbs/www-data/pdf/RDF0000/ABA0000C1218.pdf; Supplier Part Number 1: P5185-ND
footprint CAP POL 10x12.5 Pitch 5mm
pins: 1, 2

## EEE-1HA100SP
designator C?, comment 10uF 50V
CAP ALUM 10UF 20% 50V SMD; Manufacturer: Panasonic Electronic Components; Manufacturer Part Number: EEE-1HA100SP; Capacitance: 10µF; Lifetime @ Temp.: 2000 Hrs @ 85°C; Polarization: Polar; Ripple Current: 35mA @ 120Hz; Surface Mount Land Size: 0.260" L x 0.260" W (6.60mm x 6.60mm); Supplier 1: Digi-Key; RoHS: RoHS Compliant; Category: Capacitors; Stock 1: 21416; Pricing 1: 1=0.28, 10=0.193, 25=0.1584, 50=0.135, 100=0.1158, 250=0.09644, 500=0.08682 (EUR); Packaging: Cut Tape (CT); Part Status: Active; Tolerance: ±20%; Voltage Rating: 50V; ESR (Equivalent Series Resistance): -; Operating Temperature: -40°C ~ 85°C; Applications: General Purpose; Impedance: -; Lead Spacing: -; Size / Dimension: 0.248" Dia (6.30mm); Height - Seated (Max): 0.213" (5.40mm); Mounting Type: Surface Mount; Package / Case: Radial, Can - SMD; ComponentLink1URL: https://industrial.panasonic.com/cdbs/www-data/pdf/RDE0000/ABA0000C1145.pdf; ComponentLink1Description: https://industrial.panasonic.com/cdbs/www-data/pdf/RDE0000/ABA0000C1145.pdf; Supplier Part Number 1: PCE3914CT-ND
footprint CAPAE706.6X5.4M-panasonic (Aluminum Electrolytic Capacitor, Body 6,60x6,60x5,40mm, IPC Low Density)
pins: 1, 2

## EMVH500ADA220MF80G
designator *
Aluminium Electrolytic Capacitors - SMD 50 Volts 22uF; Manufacturer: United Chemi-Con; Manufacturer Part Number: EMVH500ADA220MF80G; Tolerance: 20 %; Voltage Rating DC: 50 VDC; ESR: 2.3 Ohms; Life: 1000 Hour; Supplier 1: Mouser; RoHS: RoHS Compliant; Category: Aluminium Electrolytic Capacitors - SMD; Stock 1: 1936; Pricing 1: 1=0.476, 10=0.337, 100=0.189, 500=0.165, 900=0.140, 1800=0.132, 4500=0.123, 9900=0.115, 24300=0.112 (EUR); Capacitance: 22 uF; Diameter: 6.3 mm; Length: 7.7 mm; Packaging: Reel; Product: Aluminum Electrolytic Capacitors; Series: MVH; Termination Style: SMD/SMT; Brand: United Chemi-Con; Maximum Operating Temperature: + 125 C; Minimum Operating Temperature: - 40 C; Product Category: Surface Mount Aluminum Electrolytic Capacitors; Standard Pack Qty: 900; Tradename: Alchip; RoHS - Mouser: Y; Minimum Order Quantity: 1; Reeling: True; ComponentLink1URL: http://www.mouser.com/ds/2/420/al-mvh-e-140701-514755.pdf; ComponentLink1Description: http://www.mouser.com/ds/2/420/al-mvh-e-140701-514755.pdf; Supplier Part Number 1: 661-MVH50V220M
pins: 1, 2

## ERJ-2GEJ181X
designator R?, comment 180
RES SMD 180 OHM 5% 1/10W 0402
footprint RESC1005X04L (Chip Resistor, 2-Leads, Body 1,00x0,50mm, IPC High Density)
pins: 1, 2

## ERJ-2GEJ241X
designator R?, comment 240
RES SMD 240 OHM 5% 1/10W 0402; Manufacturer: Panasonic Electronic Components; Manufacturer Part Number: ERJ-2GEJ241X; Power (Watts): 0.1W, 1/10W; Temperature Coefficient: ±200ppm/°C; Supplier 1: Digi-Key; RoHS: RoHS Compliant; Category: Resistors; Stock 1: 99765; Pricing 1: 1=0.09, 10=0.018, 100=0.007, 1000=0.00315, 2500=0.00274, 5000=0.00226 (EUR); Packaging: Cut Tape (CT); Part Status: Active; Resistance (Ohms): 240; Tolerance: ±5%; Composition: Thick Film; Features: Automotive AEC-Q200; Operating Temperature: -55°C ~ 155°C; Package / Case: 0402 (1005 Metric); Supplier Device Package: 0402; Size / Dimension: 0.039" L x 0.020" W (1.00mm x 0.50mm); Height - Seated (Max): 0.016" (0.40mm); Failure Rate: -; ComponentLink1URL: http://industrial.panasonic.com/www-cgi/jvcr13pz.cgi?E+PZ+3+AOA0001+ERJ2GEJ241X+7+WW; ComponentLink1Description: http://industrial.panasonic.com/www-cgi/jvcr13pz.cgi?E+PZ+3+AOA0001+ERJ2GEJ241X+7+WW; Supplier Part Number 1: P240JCT-ND
footprint RESC1005X04L (Chip Resistor, 2-Leads, Body 1,00x0,50mm, IPC High Density)
pins: 1, 2

## ERJ-2GEJ513X
designator R?, comment 51K
RES SMD 51K OHM 5% 1/10W 0402; Manufacturer: Panasonic Electronic Components; Manufacturer Part Number: ERJ-2GEJ513X; Power (Watts): 0.1W, 1/10W; Temperature Coefficient: ±200ppm/°C; Supplier 1: Digi-Key; RoHS: RoHS Compliant; Category: Resistors; Stock 1: 2648; Pricing 1: 1=0.09, 10=0.018, 100=0.007, 1000=0.00315, 2500=0.00274, 5000=0.00226 (EUR); Packaging: Cut Tape (CT); Part Status: Active; Resistance (Ohms): 51k; Tolerance: ±5%; Composition: Thick Film; Features: Automotive AEC-Q200; Operating Temperature: -55°C ~ 155°C; Package / Case: 0402 (1005 Metric); Supplier Device Package: 0402; Size / Dimension: 0.039" L x 0.020" W (1.00mm x 0.50mm); Height - Seated (Max): 0.016" (0.40mm); Failure Rate: -; ComponentLink1URL: http://industrial.panasonic.com/www-cgi/jvcr13pz.cgi?E+PZ+3+AOA0001+ERJ2GEJ513X+7+WW; ComponentLink1Description: http://industrial.panasonic.com/www-cgi/jvcr13pz.cgi?E+PZ+3+AOA0001+ERJ2GEJ513X+7+WW; Supplier Part Number 1: P51KJCT-ND
footprint RESC1005X04L (Chip Resistor, 2-Leads, Body 1,00x0,50mm, IPC High Density)
pins: 1, 2

## ERJ-2RKF49R9X
designator R?, comment 49.9
RES 49.9 OHM 1/10W 1% 0402 SMD; Manufacturer: Panasonic Electronic Components; Manufacturer Part Number: ERJ-2RKF49R9X; Power (Watts): 0.1W, 1/10W; Temperature Coefficient: ±100ppm/°C; Power Rating: 100 mW; Resistance: 49.9 Ohms; Voltage Rating: 50 V; Brand: Panasonic; Case Height: 0.35 mm; Case Length: 1 mm; Case Width: 0.5 mm; Supplier 1: Digi-Key; Supplier Part Number 1: P49.9LCT-ND; RoHS: RoHS Compliant; Category: Resistors; Stock 1: 1346165; Pricing 1: 1=0.09, 50=0.0172, 100=0.0131, 250=0.00972, 500=0.00718, 1000=0.00479, 5000=0.00337 (EUR); Packaging: Cut Tape (CT); Resistance (Ohms): 49.9; Tolerance: ±1%; Composition: Thick Film; Features: Automotive AEC-Q200; Operating Temperature: -55°C ~ 155°C; Package / Case: 0402 (1005 Metric); Supplier Device Package: 0402; Size / Dimension: 0.039" L x 0.020" W (1.00mm x 0.50mm); Height: 0.016" (0.40mm); Number of Terminations: 2; ComponentLink1URL: http://industrial.panasonic.com/www-cgi/jvcr13pz.cgi?E+PZ+3+AOA0002+ERJ2RKF49R9X+7+WW; ComponentLink1Description: http://industrial.panasonic.com/www-cgi/jvcr13pz.cgi?E+PZ+3+AOA0002+ERJ2RKF49R9X+7+WW; Supplier 2: Mouser; Supplier Part Number 2: 667-ERJ-2RKF49R9X; Stock 2: 447542; Pricing 2: 1=0.182, 10=0.017, 100=0.007, 1000=0.004, 5000=0.003, 10000=0.003 (EUR); Operating Temperature Range: - 55 C to + 155 C; Package/Case: 0402 (1005 metric); Product: Thick Film Resistors SMD; Series: ERJ; Type: Precision Thick Film Resistors SMD; Case Code - in: 0402; Case Code - mm: 1005; Standard Pack Qty: 10000; RoHS - Mouser: E; Minimum Order Quantity: 1; Reeling: True; ComponentLink2URL: http://industrial.panasonic.com/www-data/pdf/AOA0000/AOA0000CE2.pdf; ComponentLink2Description: http://industrial.panasonic.com/www-data/pdf/AOA0000/AOA0000CE2.pdf
footprint RESC1005X04L (Chip Resistor, 2-Leads, Body 1,00x0,50mm, IPC High Density)
pins: 1, 2

## ETC1-1-13TR
designator TR?
TRANSFORMER; Manufacturer: MACOM; Manufacturer Part Number: ETC1-1-13TR; Frequency Range: 4.5 MHz to 3000 MHz; Power Rating: 250 mW; Supplier 1: Mouser; Supplier Part Number 1: 937-ETC1-1-13TR; RoHS: RoHS Compliant; Category: Transformers Audio & Signal; Stock 1: 11635; Pricing 1: 1=2.06, 10=1.67, 100=1.33, 500=1.17, 1000=1.04, 2000=0.874, 4000=0.843, 10000=0.811 (EUR); Dimensions: 3.81 mm L x 3.81 mm W x 2.67 mm H; Height: 2.67 mm; Length: 3.81 mm; Operating Temperature Range: - 40 C to + 85 C; Package/Case: SM-22; Packaging: Reel; Product: Line Transformers; Termination Style: SMD/SMT; Width: 3.81 mm; Brand: MACOM; Product Type: Transmission Line Transformers; Standard Pack Qty: 2000; RoHS - Mouser: Y; Minimum Order Quantity: 1; Reeling: True; ComponentLink1URL: http://www.mouser.com/ds/2/249/ETC1-1-13-335562.pdf; ComponentLink1Description: http://www.mouser.com/ds/2/249/ETC1-1-13-335562.pdf
footprint SM-22 (MACOM SM-22, 5-Leads, Body 3,81x3,81mm, Pitch 1,27mm, IPC Medium Density)
pins: 1, 2, 3, 5

## F981A475MMA
designator C?, comment 4.7uF
CAP TANT 4.7UF 10V 20% 0603; Manufacturer: AVX Corporation; Manufacturer Part Number: F981A475MMA; Manufacturer Size Code: M; Type: Molded; ESR (Equivalent Series Resistance): 6 Ohm; Supplier 1: Digi-Key; RoHS: RoHS Compliant; Category: Capacitors; Stock 1: 44000; Pricing 1: 4000=0.15246, 8000=0.1423, 12000=0.13975, 28000=0.13721 (EUR); Packaging: Tape & Reel (TR); Part Status: Active; Tolerance: ±20%; Operating Temperature: -55°C ~ 125°C; Lifetime @ Temp.: -; Mounting Type: Surface Mount; Package / Case: 0603 (1608 Metric); Size / Dimension: 0.063" L x 0.033" W (1.60mm x 0.85mm); Height - Seated (Max): 0.035" (0.90mm); Lead Spacing: -; Features: General Purpose; Failure Rate: -; ComponentLink1URL: http://datasheets.avx.com/F98.pdf; ComponentLink1Description: http://datasheets.avx.com/F98.pdf; Supplier Part Number 1: 478-8651-2-ND
footprint 0603 Cap (Chip Capacitor, Body 1.6x0.8mm, IPC High Density)
pins: 1, 2

## FBMJ2125HS420-T
designator FB?, comment 42 ohm
FERRITE BEAD 42 OHM 0805; Manufacturer: Taiyo Yuden; Manufacturer Part Number: FBMJ2125HS420-T; Impedance @ Frequency: 42 Ohm @ 100MHz; Current Rating: 4A; DC Resistance (DCR): 8 mOhm Max; Filter Type: Differential Mode - Single; Impedance: 42 Ohms; Maximum DC Current: 4 A; Maximum DC Resistance: 8 mOhms; Tolerance: 25 %; Type: Chip Bead Inductor for Power Lines; Test Frequency: 100 MHz; Supplier 1: Digi-Key; RoHS: RoHS Compliant; Category: Filters; Stock 1: 291866; Pricing 1: 1=0.09, 10=0.074, 50=0.0486, 100=0.0419, 250=0.03532, 500=0.02798, 1000=0.02355 (EUR); Packaging: Digi-Reel®; Package / Case: 0805 (2012 Metric); Mounting Type: Surface Mount; Height (Max): 0.041" (1.05mm); Size / Dimension: 0.079" L x 0.049" W (2.00mm x 1.25mm); ComponentLink1URL: http://ds.yuden.co.jp/TYCOMPAS/ut/detail.do?productNo=FBMJ2125HS420-T&fileName=FBMJ2125HS420-T_SS&mode=specSheetDownload; ComponentLink1Description: http://ds.yuden.co.jp/TYCOMPAS/ut/detail.do?productNo=FBMJ2125HS420-T&fileName=FBMJ2125HS420-T_SS&mode=specSheetDownload; Supplier 2: Mouser; Stock 2: 32337; Pricing 2: 1=0.110, 10=0.059, 100=0.040, 500=0.037, 1000=0.030, 4000=0.027, 8000=0.025, 12000=0.024, 24000=0.023 (EUR); Capacitance: -; Height: 0.85 mm; Length: 2 mm; Operating Temperature Range: - 40 C to + 125 C; Package/Case: 0805 (2012 metric); Product: Ferrite Chip Beads; Series: FBM; Termination Style: SMD/SMT; Width: 1.25 mm; Brand: Taiyo Yuden; Standard Pack Qty: 4000; RoHS - Mouser: Y; Minimum Order Quantity: 1; Reeling: True; ComponentLink2URL: http://www.mouser.com/ds/2/396/chipbeads01_e-559265.pdf; ComponentLink2Description: http://www.mouser.com/ds/2/396/chipbeads01_e-559265.pdf; Supplier Part Number 1: 587-1768-6-ND; Supplier Part Number 2: 963-FBMJ2125HS420-T
footprint INDC2012X11L (Chip Inductor, 2-Leads, Body 2,00x1,25mm, IPC High Density)
pins: 1, 2

## FIDUCIAL
designator FD?  (no BOM)
Round fiducial
footprint FIDU-DOT (Fiducial dot shaped)

## GCM21BR71A106KE22L
designator C?, comment 10 uF
Multilayer Ceramic Capacitors MLCC - SMD/SMT 0805 10uF 10volts X7R 10%; Manufacturer: Murata Electronics; Manufacturer Part Number: GCM21BR71A106KE22L; Type: Ceramic Capacitors Automotive Temperature Compensating, Power Train Safety Equipment; Voltage Rating DC: 10 VDC; Class: Class 2; Product Status: New Product; Supplier 1: Mouser; RoHS: RoHS Compliant; Category: Multilayer Ceramic Capacitors MLCC - SMD/SMT; Stock 1: 76950; Pricing 1: 1=0.471, 10=0.268, 100=0.165, 1000=0.151, 3000=0.100, 9000=0.092, 24000=0.091, 45000=0.088, 99000=0.083 (EUR); Capacitance: 10 uF; Height: 1.25 mm; Length: 2 mm; Packaging: Reel; Product: Automotive MLCCs; Series: GCM; Termination Style: SMD/SMT; Tolerance: 10 %; Width: 1.25 mm; Brand: Murata Electronics; Case Code - in: 0805; Case Code - mm: 2012; Dielectric: X7R; Maximum Operating Temperature: + 125 C; Minimum Operating Temperature: - 55 C; RoHS - Mouser: Y; Minimum Order Quantity: 1; Reeling: True; ComponentLink1URL: http://www.mouser.com/ds/2/281/c03e-516224.pdf; ComponentLink1Description: http://www.mouser.com/ds/2/281/c03e-516224.pdf; Supplier Part Number 1: 81-GCM21BR71A106KE2L
footprint CAPC2012X08L
pins: 1, 2

## GCM1555C1H221JA16D
designator C?, comment 220pF
Multilayer Ceramic Capacitors MLCC - SMD/SMT 0402 220pF 50volts C0G +/-5%; Manufacturer: Murata Electronics; Manufacturer Part Number: GCM1555C1H221JA16D; Tolerance: 5 %; Type: Automotive Ultra Small MLCC; Voltage Rating DC: 50 V; Case Height: 0.5 mm; Case Length: 1 mm; Dielectric: C0G (NP0); Dissipation Factor DF: 0.01; Temperature Coefficient/Code: +/- 30 PPM / C; Voltage - Rated: 50V; Temperature Coefficient: C0G, NP0; Supplier 1: Mouser; Supplier Part Number 1: 81-GCM1555C1H221J16D; RoHS: RoHS Compliant; Category: Multilayer Ceramic Capacitors MLCC - SMD/SMT; Stock 1: 99950; Pricing 1: 1=0.090, 10=0.029, 100=0.018, 1000=0.012, 2500=0.011, 10000=0.009, 20000=0.008, 50000=0.006 (EUR); Capacitance: 220 pF; Operating Temperature Range: - 55 C to + 125 C; Package/Case: 0402 (1005 metric); Packaging: Reel; Product: Automotive MLCCs; Series: GCM; Termination Style: SMD/SMT; Brand: Murata Electronics; Case Code - in: 0402; Case Code - mm: 1005; Case Width: 0.5 mm; Maximum Operating Temperature: + 125 C; Minimum Operating Temperature: - 25 C; Product Category: Automotive Ceramic Chip Capacitors; Standard Pack Qty: 10000; RoHS - Mouser: Y; Minimum Order Quantity: 1; Reeling: True; ComponentLink1URL: http://www.mouser.com/ds/2/281/product-361238.pdf; ComponentLink1Description: http://www.mouser.com/ds/2/281/product-361238.pdf; Supplier 2: Digi-Key; Supplier Part Number 2: 490-4927-1-ND; Stock 2: 94434; Pricing 2: 1=0.09, 10=0.055, 50=0.0298, 100=0.0252, 250=0.0206, 500=0.01762, 1000=0.01373, 5000=0.01144 (EUR); Mounting Type: Surface Mount, MLCC; Operating Temperature: -55°C ~ 125°C; Applications: Automotive; Ratings: AEC-Q200; Package / Case: 0402 (1005 Metric); Size / Dimension: 0.039" L x 0.020" W (1.00mm x 0.50mm); Height - Seated (Max): -; Thickness (Max): 0.022" (0.55mm); Lead Spacing: -; Features: -; Lead Style: -; ComponentLink2URL: http://www.murata.com/products/catalog/pdf/c03e.pdf; ComponentLink2Description: http://www.murata.com/products/catalog/pdf/c03e.pdf
footprint CAPC1005X05L (Chip Capacitor, 2-Leads, Body 1,00x0,50mm, IPC High Density)
pins: 1, 2

## GCM1555C1H471JA16D
designator C?, comment 470 pF
Multilayer Ceramic Capacitors MLCC - SMD/SMT 0402 470pF 50volts C0G 5%; Manufacturer: Murata Electronics; Manufacturer Part Number: GCM1555C1H471JA16D; Type: Automotive Ultra Small MLCC; Voltage Rating DC: 50 V; Case Height: 0.5 mm; Case Length: 1 mm; Dielectric: C0G (NP0); Temperature Coefficient/Code: +/- 30 PPM / C; Voltage - Rated: 50V; Temperature Coefficient: C0G, NP0; Supplier 1: Mouser; Supplier Part Number 1: 81-GCM1555C1H471JA6D; RoHS: RoHS Compliant; Category: Multilayer Ceramic Capacitors MLCC - SMD/SMT; Stock 1: 28168; Pricing 1: 1=0.080, 10=0.033, 100=0.020, 1000=0.015, 2500=0.012, 10000=0.011, 20000=0.010, 50000=0.009, 100000=0.007 (EUR); Capacitance: 470 pF; Operating Temperature Range: - 55 C to + 125 C; Package/Case: 0402 (1005 metric); Packaging: Reel; Product: Automotive MLCCs; Series: GCM; Termination Style: SMD/SMT; Tolerance: 5 %; Brand: Murata Electronics; Case Code - in: 0402; Case Code - mm: 1005; Case Width: 0.5 mm; Maximum Operating Temperature: + 125 C; Minimum Operating Temperature: - 25 C; Product Category: Automotive Ceramic Chip Capacitors; Standard Pack Qty: 10000; RoHS - Mouser: Y; Minimum Order Quantity: 1; Reeling: True; ComponentLink1URL: http://www.mouser.com/ds/2/281/product-360600.pdf; ComponentLink1Description: http://www.mouser.com/ds/2/281/product-360600.pdf; Supplier 2: Digi-Key; Supplier Part Number 2: 490-4758-1-ND; Stock 2: 86835; Pricing 2: 1=0.09, 10=0.063, 50=0.0344, 100=0.029, 250=0.02376, 500=0.02032, 1000=0.01584, 5000=0.0132 (EUR); Mounting Type: Surface Mount, MLCC; Operating Temperature: -55°C ~ 125°C; Applications: Automotive; Ratings: AEC-Q200; Package / Case: 0402 (1005 Metric); Size / Dimension: 0.039" L x 0.020" W (1.00mm x 0.50mm); Height - Seated (Max): -; Thickness (Max): 0.022" (0.55mm); Lead Spacing: -; Features: -; Lead Style: -; ComponentLink2URL: http://www.murata.com/products/catalog/pdf/c03e.pdf; ComponentLink2Description: http://www.murata.com/products/catalog/pdf/c03e.pdf
footprint CAPC1005X05L (Chip Capacitor, 2-Leads, Body 1,00x0,50mm, IPC High Density)
pins: 1, 2

## GJM1555C1HR50BB01D
designator C?, comment 0.5pF
CAP CER 0.5PF 50V C0G/NP0 0402; Manufacturer: Murata Electronics North America; Manufacturer Part Number: GJM1555C1HR50BB01D; Tolerance: ±0.1pF; Temperature Coefficient: C0G, NP0; Supplier 1: Digi-Key; RoHS: RoHS Compliant; Category: Capacitors; Stock 1: 43253; Pricing 1: 1=0.14, 10=0.101, 100=0.0474, 500=0.03328, 1000=0.02756, 2500=0.02564, 5000=0.02346 (EUR); Packaging: Cut Tape (CT); Part Status: Active; Voltage - Rated: 50V; Operating Temperature: -55°C ~ 125°C; Features: High Q, Low Loss; Ratings: -; Applications: RF, Microwave, High Frequency; Mounting Type: Surface Mount, MLCC; Package / Case: 0402 (1005 Metric); Size / Dimension: 0.039" L x 0.020" W (1.00mm x 0.50mm); Height - Seated (Max): -; Thickness (Max): 0.022" (0.55mm); Lead Spacing: -; Lead Style: -; ComponentLink1URL: http://search.murata.co.jp/Ceramy/image/img/A01X/G101/ENG/GJM1555C1HR50BB01-01.pdf; ComponentLink1Description: http://search.murata.co.jp/Ceramy/image/img/A01X/G101/ENG/GJM1555C1HR50BB01-01.pdf; Supplier Part Number 1: 490-6077-1-ND
footprint CAPC1005X05L (Chip Capacitor, 2-Leads, Body 1,00x0,50mm, IPC High Density)
pins: 1, 2

## GQM1885C1H8R0CB01D
designator C?, comment 8 pF
Multilayer Ceramic Capacitors MLCC - SMD/SMT 0603 8.0pF 50volts C0G +/-0.25pF; Manufacturer: Murata Electronics; Manufacturer Part Number: GQM1885C1H8R0CB01D; Tolerance: 0.25 pF; Type: High Frequency High Q Type; Voltage Rating DC: 50 V; Case Height: 0.8 mm; Case Length: 1.6 mm; Dielectric: C0G (NP0); Temperature Coefficient/Code: +/- 30 PPM / C; Voltage - Rated: 50V; Temperature Coefficient: C0G, NP0; Supplier 1: Mouser; Supplier Part Number 1: 81-GQM1885C1H8R0CB01; RoHS: RoHS Compliant; Category: Multilayer Ceramic Capacitors MLCC - SMD/SMT; Stock 1: 3131; Pricing 1: 1=0.519, 10=0.498, 100=0.200, 1000=0.167, 4000=0.111, 8000=0.104, 24000=0.100, 48000=0.095, 100000=0.093 (EUR); Capacitance: 8 pF; Operating Temperature Range: - 55 C to + 125 C; Package/Case: 0603 (1608 metric); Packaging: Reel; Product: High Q MLCCs; Series: GQM; Termination Style: SMD/SMT; Brand: Murata Electronics; Case Code - in: 0603; Case Code - mm: 1608; Case Width: 0.8 mm; Maximum Operating Temperature: + 125 C; Minimum Operating Temperature: - 55 C; Product Category: Low & Medium Capacitance SMD Ceramic Chip Capacitors; Standard Pack Qty: 4000; RoHS - Mouser: Y; Minimum Order Quantity: 1; Reeling: True; ComponentLink1URL: http://www.mouser.com/ds/2/281/product-238615.pdf; ComponentLink1Description: http://www.mouser.com/ds/2/281/product-238615.pdf; Supplier 2: Digi-Key; Supplier Part Number 2: 490-3566-1-ND; Stock 2: 7329; Pricing 2: 1=0.54, 10=0.516, 50=0.3084, 100=0.2506, 250=0.20816, 500=0.18888, 1000=0.17007 (EUR); Mounting Type: Surface Mount, MLCC; Operating Temperature: -55°C ~ 125°C; Applications: RF, Microwave, High Frequency; Ratings: -; Package / Case: 0603 (1608 Metric); Size / Dimension: 0.063" L x 0.031" W (1.60mm x 0.80mm); Height - Seated (Max): -; Thickness (Max): 0.035" (0.90mm); Lead Spacing: -; Features: High Q, Low Loss; Lead Style: -; ComponentLink2URL: http://www.murata.com/products/catalog/pdf/c02e.pdf; ComponentLink2Description: http://www.murata.com/products/catalog/pdf/c02e.pdf
footprint CAPC1608X10L (Chip Capacitor, 2-Leads, Body 1,60x0,80mm, IPC High Density)
pins: 1, 2

## GQM1885C1H220JB01D
designator C?, comment 22 pF
Multilayer Ceramic Capacitors MLCC - SMD/SMT 0603 22pF 50volts C0G 5%; Manufacturer: Murata Electronics; Manufacturer Part Number: GQM1885C1H220JB01D; Type: High Frequency High Q Type; Voltage Rating DC: 50 V; Case Height: 0.8 mm; Case Length: 1.6 mm; Dielectric: C0G (NP0); Temperature Coefficient/Code: +/- 30 PPM / C; Voltage - Rated: 50V; Temperature Coefficient: C0G, NP0; Supplier 1: Mouser; Supplier Part Number 1: 81-GQM1885C1H220JB01; RoHS: RoHS Compliant; Category: Multilayer Ceramic Capacitors MLCC - SMD/SMT; Stock 1: 5281; Pricing 1: 1=0.675, 10=0.649, 100=0.261, 1000=0.218, 4000=0.145, 8000=0.135, 24000=0.131 (EUR); Capacitance: 22 pF; Operating Temperature Range: - 55 C to + 125 C; Package/Case: 0603 (1608 metric); Packaging: Reel; Product: High Q MLCCs; Series: GQM; Termination Style: SMD/SMT; Tolerance: 5 %; Brand: Murata Electronics; Case Code - in: 0603; Case Code - mm: 1608; Case Width: 0.8 mm; Maximum Operating Temperature: + 125 C; Minimum Operating Temperature: - 55 C; Product Category: Low & Medium Capacitance SMD Ceramic Chip Capacitors; Standard Pack Qty: 4000; RoHS - Mouser: Y; Minimum Order Quantity: 1; Reeling: True; ComponentLink1URL: http://www.mouser.com/ds/2/281/product-238573.pdf; ComponentLink1Description: http://www.mouser.com/ds/2/281/product-238573.pdf; Supplier 2: Digi-Key; Supplier Part Number 2: 490-3575-1-ND; Stock 2: 21589; Pricing 2: 1=0.7, 10=0.673, 50=0.4022, 100=0.3267, 250=0.2714, 500=0.24626, 1000=0.22173 (EUR); Mounting Type: Surface Mount, MLCC; Operating Temperature: -55°C ~ 125°C; Applications: RF, Microwave, High Frequency; Ratings: -; Package / Case: 0603 (1608 Metric); Size / Dimension: 0.063" L x 0.031" W (1.60mm x 0.80mm); Height - Seated (Max): -; Thickness (Max): 0.035" (0.90mm); Lead Spacing: -; Features: High Q, Low Loss; Lead Style: -; ComponentLink2URL: http://www.murata.com/products/catalog/pdf/c02e.pdf; ComponentLink2Description: http://www.murata.com/products/catalog/pdf/c02e.pdf
footprint CAPC1608X10L (Chip Capacitor, 2-Leads, Body 1,60x0,80mm, IPC High Density)
pins: 1, 2